# Altium footprint library LAUNCHXL.PcbLib: 2 footprints
Each footprint in its own frame and in the unit in brackets; x right, y up, seen from the top. Pads: shape width x height; smd on the part's side, far side on the other; paste and mask are expansions set on the pad; w line width, h text height; cw(c..) or ccw(c..) is an arc to the next point about the centre after c.
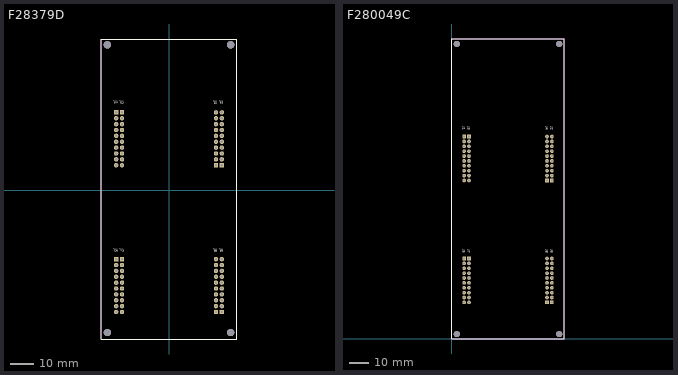
[diagram p0: the footprints below, top view; thin cyan lines are the x and y axes]

## F28379D [mm]
pads (84):
  rect 1.9x1.9 hole 1: J1_1(-22.86,33.655) J2_1(22.86,10.795) J3_1(-20.32,33.655) J4_1(20.32,10.795) J5_1(-22.86,-29.845) J6_1(22.86,-52.705) J7_1(-20.32,-29.845) J8_1(20.32,-52.705)
  round 1.9 hole 1: J1_2(-22.86,31.115) J1_3(-22.86,28.575) J1_4(-22.86,26.035) J1_5(-22.86,23.495) J1_6(-22.86,20.955) J1_7(-22.86,18.415) J1_8(-22.86,15.875) J1_9(-22.86,13.335) J1_10(-22.86,10.795) J2_2(22.86,13.335) J2_3(22.86,15.875) J2_4(22.86,18.415) J2_5(22.86,20.955) J2_6(22.86,23.495) J2_7(22.86,26.035) J2_8(22.86,28.575) J2_9(22.86,31.115) J2_10(22.86,33.655) J3_2(-20.32,31.115) J3_3(-20.32,28.575) J3_4(-20.32,26.035) J3_5(-20.32,23.495) J3_6(-20.32,20.955) J3_7(-20.32,18.415) J3_8(-20.32,15.875) J3_9(-20.32,13.335) J3_10(-20.32,10.795) J4_2(20.32,13.335) J4_3(20.32,15.875) J4_4(20.32,18.415) J4_5(20.32,20.955) J4_6(20.32,23.495) J4_7(20.32,26.035) J4_8(20.32,28.575) J4_9(20.32,31.115) J4_10(20.32,33.655) J5_2(-22.86,-32.385) J5_3(-22.86,-34.925) J5_4(-22.86,-37.465) J5_5(-22.86,-40.005) J5_6(-22.86,-42.545) J5_7(-22.86,-45.085) J5_8(-22.86,-47.625) J5_9(-22.86,-50.165) J5_10(-22.86,-52.705) J6_2(22.86,-50.165) J6_3(22.86,-47.625) J6_4(22.86,-45.085) J6_5(22.86,-42.545) J6_6(22.86,-40.005) J6_7(22.86,-37.465) J6_8(22.86,-34.925) J6_9(22.86,-32.385) J6_10(22.86,-29.845) J7_2(-20.32,-32.385) J7_3(-20.32,-34.925) J7_4(-20.32,-37.465) J7_5(-20.32,-40.005) J7_6(-20.32,-42.545) J7_7(-20.32,-45.085) J7_8(-20.32,-47.625) J7_9(-20.32,-50.165) J7_10(-20.32,-52.705) J8_2(20.32,-50.165) J8_3(20.32,-47.625) J8_4(20.32,-45.085) J8_5(20.32,-42.545) J8_6(20.32,-40.005) J8_7(20.32,-37.465) J8_8(20.32,-34.925) J8_9(20.32,-32.385) J8_10(20.32,-29.845)
  round 3.175 hole 3.175 unplated: ""(-26.67,-61.595) ""(-26.67,62.865) ""(26.67,-61.595) ""(26.67,62.865)
Top Overlay:
  lines w0.127: -29.21,-64.389 -29.21,65.405 29.21,65.405 29.21,-64.389 -29.21,-64.389
  text "J5" at -23.495,-25.4 h1.27
  text "J7" at -20.955,-25.4 h1.27
  text "J8" at 19.685,-25.4 h1.27
  text "J6" at 22.225,-25.4 h1.27
  text "J4" at 19.685,38.735 h1.27
  text "J2" at 22.225,38.735 h1.27
  text "J3" at -20.955,38.735 h1.27
  text "J1" at -23.495,38.735 h1.27
Mechanical 13:
  lines w0.127: -29.21,-64.389 29.21,-64.389 29.21,65.405 -29.21,65.405 -29.21,-64.389
3D body "28379D_launchpad.step": height 18.66, standoff 0.02, extent -29.21,-64.811 31.68,66.081
3D body "Header 5x2 vert 0.1 inch pitch thru.step": height 8.61, standoff -2.64, extent -24,22.225 -19.18,34.925
3D body "Header 5x2 vert 0.1 inch pitch thru.step": height 8.61, standoff -2.64, extent -24,9.525 -19.18,22.225
3D body "Header 5x2 vert 0.1 inch pitch thru.step": height 8.61, standoff -2.64, extent 19.18,22.225 24,34.925
3D body "Header 5x2 vert 0.1 inch pitch thru.step": height 8.61, standoff -2.64, extent 19.18,9.525 24,22.225
3D body "Header 5x2 vert 0.1 inch pitch thru.step": height 8.61, standoff -2.64, extent 19.18,-53.975 24,-41.275
3D body "Header 5x2 vert 0.1 inch pitch thru.step": height 8.61, standoff -2.64, extent 19.18,-41.275 24,-28.575
3D body "Header 5x2 vert 0.1 inch pitch thru.step": height 8.61, standoff -2.64, extent -24,-53.975 -19.18,-41.275
3D body "Header 5x2 vert 0.1 inch pitch thru.step": height 8.61, standoff -2.64, extent -24,-41.275 -19.18,-28.575

## F280049C [mm]
pads (84):
  rect 1.9x1.9 hole 1: J1_1(6.35,105.41) J2_1(52.07,82.55) J3_1(8.89,105.41) J4_1(49.53,82.55) J5_1(6.35,41.91) J6_1(52.07,19.05) J7_1(8.89,41.91) J8_1(49.53,19.05)
  round 1.9 hole 1: J1_2(6.35,102.87) J1_3(6.35,100.33) J1_4(6.35,97.79) J1_5(6.35,95.25) J1_6(6.35,92.71) J1_7(6.35,90.17) J1_8(6.35,87.63) J1_9(6.35,85.09) J1_10(6.35,82.55) J2_2(52.07,85.09) J2_3(52.07,87.63) J2_4(52.07,90.17) J2_5(52.07,92.71) J2_6(52.07,95.25) J2_7(52.07,97.79) J2_8(52.07,100.33) J2_9(52.07,102.87) J2_10(52.07,105.41) J3_2(8.89,102.87) J3_3(8.89,100.33) J3_4(8.89,97.79) J3_5(8.89,95.25) J3_6(8.89,92.71) J3_7(8.89,90.17) J3_8(8.89,87.63) J3_9(8.89,85.09) J3_10(8.89,82.55) J4_2(49.53,85.09) J4_3(49.53,87.63) J4_4(49.53,90.17) J4_5(49.53,92.71) J4_6(49.53,95.25) J4_7(49.53,97.79) J4_8(49.53,100.33) J4_9(49.53,102.87) J4_10(49.53,105.41) J5_2(6.35,39.37) J5_3(6.35,36.83) J5_4(6.35,34.29) J5_5(6.35,31.75) J5_6(6.35,29.21) J5_7(6.35,26.67) J5_8(6.35,24.13) J5_9(6.35,21.59) J5_10(6.35,19.05) J6_2(52.07,21.59) J6_3(52.07,24.13) J6_4(52.07,26.67) J6_5(52.07,29.21) J6_6(52.07,31.75) J6_7(52.07,34.29) J6_8(52.07,36.83) J6_9(52.07,39.37) J6_10(52.07,41.91) J7_2(8.89,39.37) J7_3(8.89,36.83) J7_4(8.89,34.29) J7_5(8.89,31.75) J7_6(8.89,29.21) J7_7(8.89,26.67) J7_8(8.89,24.13) J7_9(8.89,21.59) J7_10(8.89,19.05) J8_2(49.53,21.59) J8_3(49.53,24.13) J8_4(49.53,26.67) J8_5(49.53,29.21) J8_6(49.53,31.75) J8_7(49.53,34.29) J8_8(49.53,36.83) J8_9(49.53,39.37) J8_10(49.53,41.91)
  round 3.175 hole 3.175 unplated: ""(2.54,2.54) ""(2.54,153.67) ""(55.88,2.54) ""(55.88,153.67)
Top Overlay:
  lines w0.127: 0,0 58.42,0 58.42,156.21 0,156.21 0,0
  text "J1" at 5.715,110.49 h1.27
  text "J3" at 8.255,110.49 h1.27
  text "J2" at 51.435,110.49 h1.27
  text "J4" at 48.895,110.49 h1.27
  text "J6" at 51.435,46.355 h1.27
  text "J8" at 48.895,46.355 h1.27
  text "J7" at 8.255,46.355 h1.27
  text "J5" at 5.715,46.355 h1.27
Mechanical 13:
  lines w0.127: 0,0 58.42,0 58.42,156.21 0,156.21 0,0
3D body "F280049C.step": height 21.58, standoff 2.91, extent 0,0 58.42,156.21
3D body "Header 5x2 vert 0.1 inch pitch thru.step": height 8.61, standoff -2.64, extent 5.21,30.48 10.03,43.18
3D body "Header 5x2 vert 0.1 inch pitch thru.step": height 8.61, standoff -2.64, extent 5.21,17.78 10.03,30.48
3D body "Header 5x2 vert 0.1 inch pitch thru.step": height 8.61, standoff -2.64, extent 48.39,30.48 53.21,43.18
3D body "Header 5x2 vert 0.1 inch pitch thru.step": height 8.61, standoff -2.64, extent 48.39,17.78 53.21,30.48
3D body "Header 5x2 vert 0.1 inch pitch thru.step": height 8.61, standoff -2.64, extent 48.39,81.28 53.21,93.98
3D body "Header 5x2 vert 0.1 inch pitch thru.step": height 8.61, standoff -2.64, extent 48.39,93.98 53.21,106.68
3D body "Header 5x2 vert 0.1 inch pitch thru.step": height 8.61, standoff -2.64, extent 5.21,81.28 10.03,93.98
3D body "Header 5x2 vert 0.1 inch pitch thru.step": height 8.61, standoff -2.64, extent 5.21,93.98 10.03,106.68